# EAGLE library part 10X1 (library controller-r3)
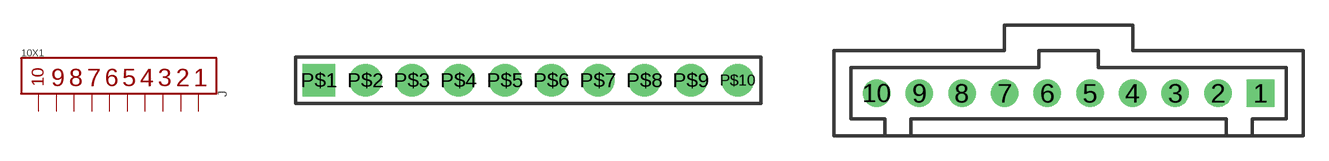
[diagram p5: symbol with the pads of 1X10; footprints 1X10, MOLEX_70543-(10)]

Designator prefix J

## 10X1  [1X10]
P$1  1
P$2  2
P$3  3
P$4  4
P$5  5
P$6  6
P$7  7
P$8  8
P$9  9
P$10  10

## 10X1_70543-0009  [MOLEX_70543-(10)]
1  1
2  2
3  3
4  4
5  5
6  6
7  7
8  8
9  9
10  10

## 10X1_70553-0009  [MOLEX_70553-(10)]
Pads as for MOLEX_70543-(10)

## Footprint 1X10 (pad centres in mm)
drill 1.016 pad 1.778 square: P$1 -11.43,0
drill 1.016 pad 1.778: P$2 -8.89,0; P$3 -6.35,0; P$4 -3.81,0; P$5 -1.27,0; P$6 1.27,0; P$7 3.81,0; P$8 6.35,0; P$9 8.89,0; P$10 11.43,0

## Footprint MOLEX_70543-(10) (pad centres in mm)
drill 1.092 square: 1 11.43,0
drill 1.092: 2 8.89,0; 3 6.35,0; 4 3.81,0; 5 1.27,0; 6 -1.27,0; 7 -3.81,0; 8 -6.35,0; 9 -8.89,0; 10 -11.43,0

## Footprint MOLEX_70553-(10) (pad centres in mm)
drill 1.092 square: 1 11.43,0
drill 1.092: 2 8.89,0; 3 6.35,0; 4 3.81,0; 5 1.27,0; 6 -1.27,0; 7 -3.81,0; 8 -6.35,0; 9 -8.89,0; 10 -11.43,0